# EAGLE library part BQ40Z50-R2 (library EXCISS)
BQ40Z50-R2 1-Series, 2-Series, 3-Series, and 4-Series Li-Ion Battery Links Datasheet <http://www.ti.com/lit/gpn/bq40z50-r2> Product website <http://www.ti.com/product/BQ40Z50-R2>
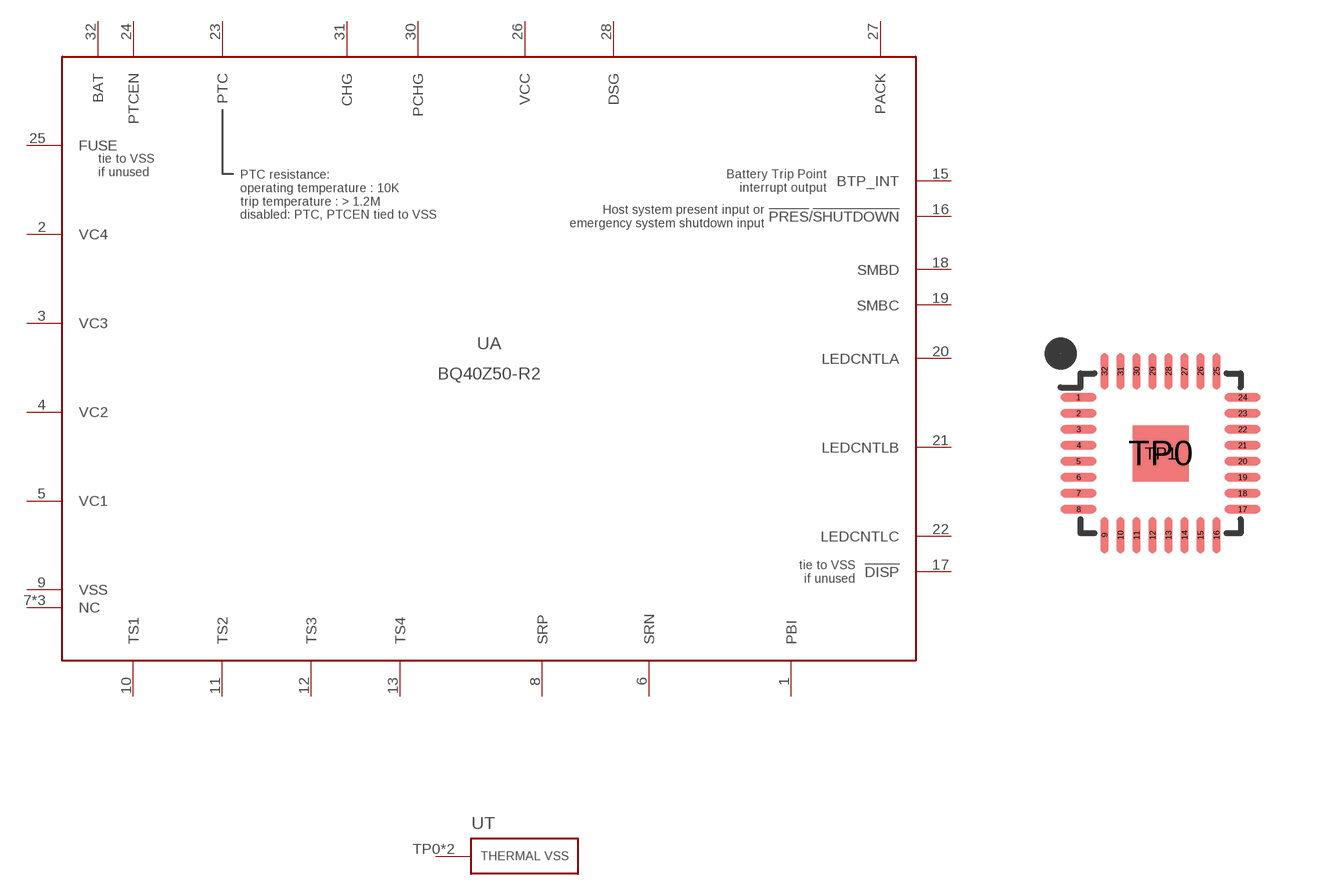
[diagram p19: symbol with the pads of RSM(S-PVQFN-N32); footprint RSM(S-PVQFN-N32)]

Designator prefix U; gates A=BQ40Z50-R2 T=THERMAL_VSS

## BQ40Z50-R2RSM (OC_MOUSER: 595-BQ40Z50RSMT-R2; VALUE: BQ40Z50RSMT-R2)  [RSM(S-PVQFN-N32)]
1  A:PBI  pwr
2  A:VC4  in
3  A:VC3  in
4  A:VC2  in
5  A:VC1  in
6  A:SRN  in
7  A:NC  nc
8  A:SRP  in
9  A:VSS  pwr
10  A:TS1  in
11  A:TS2  in
12  A:TS3  in
13  A:TS4  in
14  A:NC  nc
15  A:BTP_INT  out
16  A:!PRES!/!SHUTDOWN!  in
17  A:!DISP
18  A:SMBD
19  A:SMBC  in
20  A:LEDCNTLA
21  A:LEDCNTLB
22  A:LEDCNTLC
23  A:PTC  in
24  A:PTCEN  in
25  A:FUSE  out
26  A:VCC  pwr
27  A:PACK  in
28  A:DSG  out
29  A:NC  nc
30  A:PCHG  out
31  A:CHG  out
32  A:BAT  pwr
TP0  T:VSS  pwr
TP1  T:VSS  pwr

## Footprint RSM(S-PVQFN-N32) (pad centres in mm)
smd 0.9 x 0.2: 1 -2.05,1.4; 2 -2.05,1; 3 -2.05,0.6; 4 -2.05,0.2; 5 -2.05,-0.2; 6 -2.05,-0.6; 7 -2.05,-1; 8 -2.05,-1.4; 17 2.05,-1.4; 18 2.05,-1; 19 2.05,-0.6; 20 2.05,-0.2; 21 2.05,0.2; 22 2.05,0.6; 23 2.05,1; 24 2.05,1.4
smd 0.2 x 0.9: 9 -1.4,-2.05; 10 -1,-2.05; 11 -0.6,-2.05; 12 -0.2,-2.05; 13 0.2,-2.05; 14 0.6,-2.05; 15 1,-2.05; 16 1.4,-2.05; 25 1.4,2.05; 26 1,2.05; 27 0.6,2.05; 28 0.2,2.05; 29 -0.2,2.05; 30 -0.6,2.05; 31 -1,2.05; 32 -1.4,2.05
smd 1.4 x 1.4: TP0 0,0
drill 0.2: TP1 0,0